# Altium footprint library TXETALSANF-26P000000.PcbLib: 3 footprints
Each footprint in its own frame and in the unit in brackets; x right, y up, seen from the top. Pads: shape width x height; smd on the part's side, far side on the other; paste and mask are expansions set on the pad; w line width, h text height; cw(c..) or ccw(c..) is an arc to the next point about the centre after c.
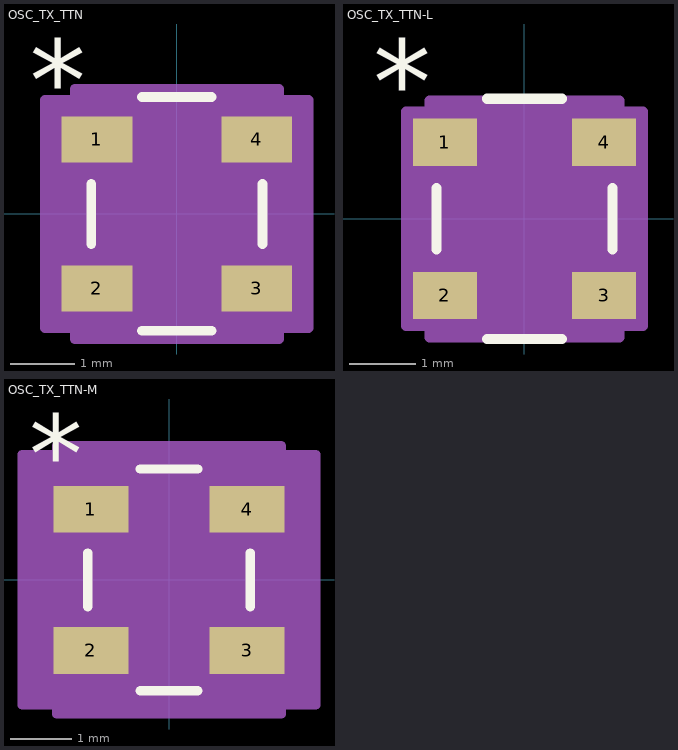
[diagram p0: the footprints below, top view; thin cyan lines are the x and y axes]

## OSC_TX_TTN [mil]
pads (4):
  rect 43x28 smd paste+0 mask+0: 1(-48.5,45.28) 2(-48.5,-45.28) 3(48.5,-45.28) 4(48.5,45.28)
Top Overlay:
  lines w6: -52,-18.18 -52,18.18 ; -21.16,-71 21.16,-71 ; -21.16,71 21.16,71 ; 52,-18.18 52,18.18
  text "*" at -89.5,56.28 h50
Mechanical 13:
  lines w0: -52,-59.28 ccw(c-52,-45.28) -52,-31.28 ; -52,31.28 ccw(c-52,45.28) -52,59.28 ; 52,-59.28 cw(c52,-45.28) 52,-31.28 ; 52,31.28 cw(c52,45.28) 52,59.28
  lines w1: -52,-59.28 -52,-66 52,-66 52,-59.28 ; -52,-31.28 -52,31.28 ; -52,56 -42,66 ; -52,59.28 -52,66 52,66 52,59.28 ; 52,-31.28 52,31.28
  text "*" at -39.5,31.28 h50
Mechanical 15:
  region: -62,-69.28 -80,-69.28 -80,69.28 -62,69.28 -62,76 62,76 62,69.28 80,69.28 80,-69.28 62,-69.28 62,-76 -62,-76
  lines w6: -80,-69.28 -80,69.28 -62,69.28 -62,76 62,76 62,69.28 80,69.28 80,-69.28 62,-69.28 62,-76 -62,-76 -62,-69.28 -80,-69.28

## OSC_TX_TTN-L [mil]
pads (4):
  rect 38x28 smd paste+0 mask+0: 1(-47,45.28) 2(-47,-45.28) 3(47,-45.28) 4(47,45.28)
Top Overlay:
  lines w6: -52,-18.18 -52,18.18 ; -22.16,-71 22.16,-71 ; -22.16,71 22.16,71 ; 52,-18.18 52,18.18
  text "*" at -89.5,56.28 h50
Mechanical 13:
  lines w0: -52,-59.28 ccw(c-52,-45.28) -52,-31.28 ; -52,31.28 ccw(c-52,45.28) -52,59.28 ; 52,-59.28 cw(c52,-45.28) 52,-31.28 ; 52,31.28 cw(c52,45.28) 52,59.28
  lines w1: -52,-59.28 -52,-66 52,-66 52,-59.28 ; -52,-31.28 -52,31.28 ; -52,56 -42,66 ; -52,59.28 -52,66 52,66 52,59.28 ; 52,-31.28 52,31.28
  text "*" at -39.5,31.28 h50
Mechanical 15:
  region: -56,-63.28 -70,-63.28 -70,63.28 -56,63.28 -56,70 56,70 56,63.28 70,63.28 70,-63.28 56,-63.28 56,-70 -56,-70
  lines w6: -70,-63.28 -70,63.28 -56,63.28 -56,70 56,70 56,63.28 70,63.28 70,-63.28 56,-63.28 56,-70 -56,-70 -56,-63.28 -70,-63.28

## OSC_TX_TTN-M [mil]
pads (4):
  rect 48x30 smd paste+0 mask+0: 1(-50,45.28) 2(-50,-45.28) 3(50,-45.28) 4(50,45.28)
Top Overlay:
  lines w6: -52,-17.18 -52,17.18 ; -18.48,-71 18.48,-71 ; -18.48,71 18.48,71 ; 52,-17.18 52,17.18
  text "*" at -89.5,56.28 h50
Mechanical 13:
  lines w0: -52,-59.28 ccw(c-52,-45.28) -52,-31.28 ; -52,31.28 ccw(c-52,45.28) -52,59.28 ; 52,-59.28 cw(c52,-45.28) 52,-31.28 ; 52,31.28 cw(c52,45.28) 52,59.28
  lines w1: -52,-59.28 -52,-66 52,-66 52,-59.28 ; -52,-31.28 -52,31.28 ; -52,56 -42,66 ; -52,59.28 -52,66 52,66 52,59.28 ; 52,-31.28 52,31.28
  text "*" at -39.5,31.28 h50
Mechanical 15:
  region: -72,-80.28 -94,-80.28 -94,80.28 -72,80.28 -72,86 72,86 72,80.28 94,80.28 94,-80.28 72,-80.28 72,-86 -72,-86
  lines w6: -94,-80.28 -94,80.28 -72,80.28 -72,86 72,86 72,80.28 94,80.28 94,-80.28 72,-80.28 72,-86 -72,-86 -72,-80.28 -94,-80.28